# Altium integrated library TI Data Converters Analog to Digital Converter.IntLib: 2198 symbols (part 30 of 164)
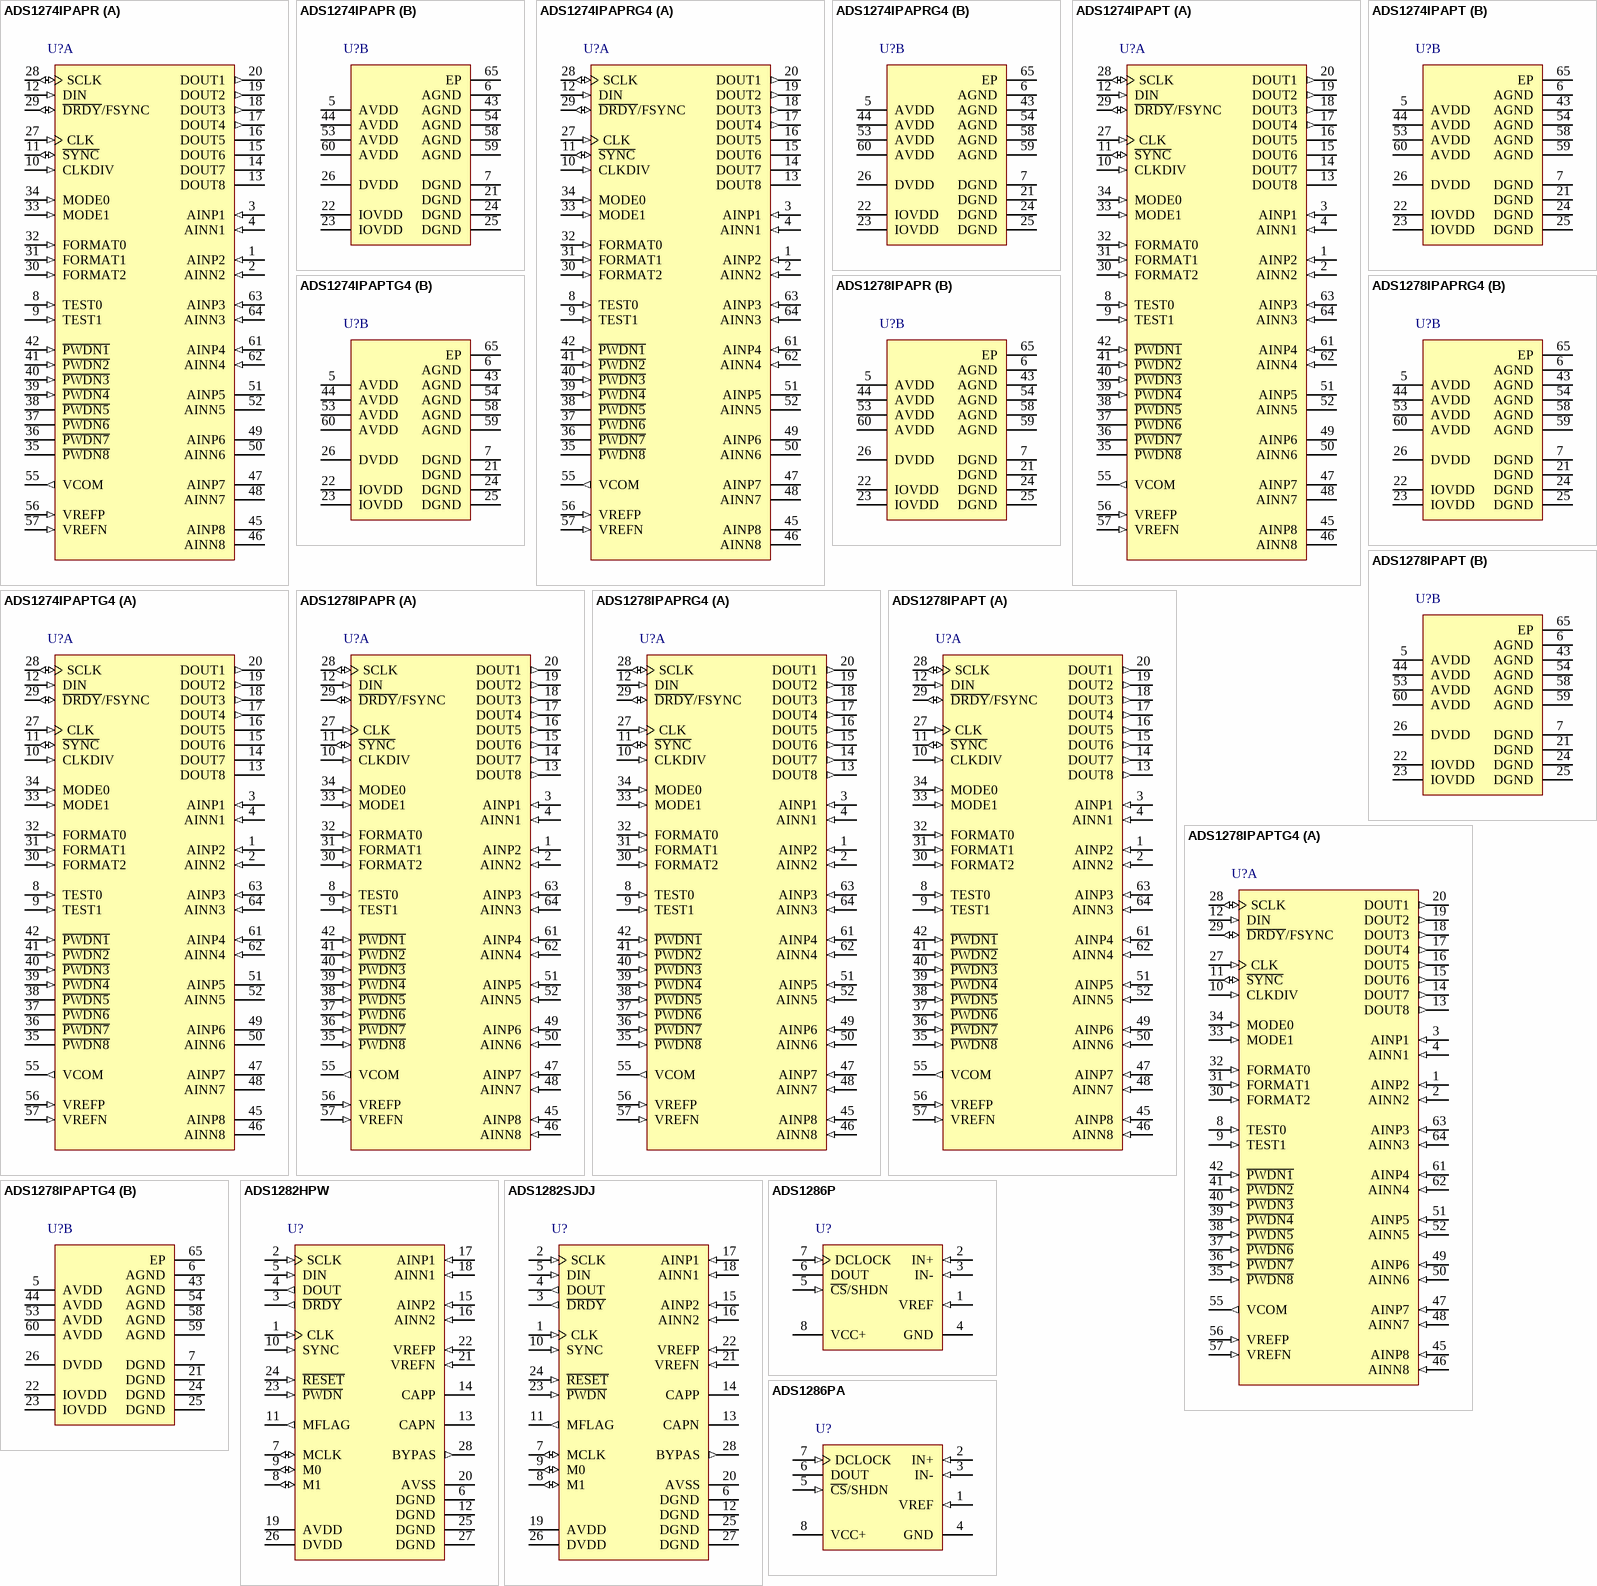
[diagram p155: symbols ADS1274IPAPR to ADS1286PA]

## ADS1274IPAPRG4
designator U?
Quad, Simultaneous Sampling, 24-Bit ADC, -40 to 125 degC, 64-pin PQFP (PAP64), Green (RoHS & no Sb/Br); Manufacturer: Texas Instruments; PartNumber: ADS1274IPAPRG4; # Input Channels: 4; Analog Voltage AV/DD(Max)(V): 5.25; Analog Voltage AV/DD(Min)(V): 4.75; Architecture: Delta-Sigma; Digital Supply(Max)(V): 3.6; Digital Supply(Min)(V): 1.65; Interface: Serial SPI; Resolution(Bits): 24; SNR(dB): 111; SubFamily: Precision ADC (<=10MSPS); DatasheetVersion: SBAS367F; PackageVersion: 4147702/C, 08/2003; PackageReference: PAP64-6495X6495TP; PackageDescription: 64-Pin PowerPAD(TM) Plastic Quad Flatpack, Body 10 x 10 mm, Pitch 0.5 mm; Supplier 1: Digi-Key; Supplier Part Number 1: ADS1274IPAPRG4-ND; Mounting Technology: Surface Mount; Code_JEDEC: MS-026; ComponentLink1Description: Manufacturer URL; ComponentLink1URL: http://www.ti.com/; ComponentLink2Description: Datasheet; ComponentLink2URL: http://www.ti.com/lit/ds/symlink/ads1274.pdf; ComponentLink3Description: Package Specification; ComponentLink3URL: http://www.ti.com/lit/ml/mpqf071b/mpqf071b.pdf
footprint TI-PAP64-6495X6495TP_N (QFP, 64-Leads, Body 10x10mm, Pitch 0.5mm, Thermal Pad 7x7mm, IPC Medium Density)
footprint TI-PAP64-6495X6495TP_L (QFP, 64-Leads, Body 10x10mm, Pitch 0.5mm, Thermal Pad 7x7mm, IPC High Density)
footprint TI-PAP64-6495X6495TP_M (QFP, 64-Leads, Body 10x10mm, Pitch 0.5mm, Thermal Pad 7x7mm, IPC Low Density)
part A pins: 1 AINP2 (in) "AINP[4:1] Positive analog input, channels 4 through 1.", 2 AINN2 (in) "AINN[4:1] Negative analog input, channels 4 through 1.", 3 AINP1 (in) "AINP[4:1] Positive analog input, channels 4 through 1.", 4 AINN1 (in) "AINN[4:1] Negative analog input, channels 4 through 1.", 8 TEST0 (in) "TEST[1:0] Test mode select: 00 = Normal operation 01 = Do not use 11 = Test mode 10 = Do not use", 9 TEST1 (in) "TEST[1:0] Test mode select: 00 = Normal operation 01 = Do not use 11 = Test mode 10 = Do not use", 10 CLKDIV (in) "CLK input divider control:1 = 37MHz (High-Speed mode)/otherwise 27MHz  0 = 13.5MHz (low-power)/5.4MHz (low-speed)", 11 ~{SYNC} (io) "Synchronize input (all channels).", 12 DIN (in) "Daisy-chain data input.", 13 DOUT8 "DOUT[8:5] Internally connected to active circuitry; outputs are driven.", 14 DOUT7 "DOUT[8:5] Internally connected to active circuitry; outputs are driven.", 15 DOUT6 "DOUT[8:5] Internally connected to active circuitry; outputs are driven.", 16 DOUT5 "DOUT[8:5] Internally connected to active circuitry; outputs are driven.", 17 DOUT4 (out) "DOUT[4:1] Data output for channels 4 through 1.", 18 DOUT3 (out) "DOUT[4:1] Data output for channels 4 through 1.", 19 DOUT2 (out) "DOUT[4:1] Data output for channels 4 through 1.", 20 DOUT1 (out) "DOUT[4:1] Data output for channels 4 through 1.", 27 CLK (in) "Master clock input (fCLK).", 28 SCLK (io) "Serial clock input, Modulator clock output", 29 ~{DRDY}/FSYNC (io) "Frame-Sync protocol: frame clock input; SPI protocol: data ready output.", 30 FORMAT2 (in) "FORMAT[2:0] Selects Frame-Sync/SPI protocol, TDM/discrete data outputs, fixed/dynamic position TDM data, and modulator mode/normal operating mode.", 31 FORMAT1 (in) "FORMAT[2:0] Selects Frame-Sync/SPI protocol, TDM/discrete data outputs, fixed/dynamic position TDM data, and modulator mode/normal operating mode.", 32 FORMAT0 (in) "FORMAT[2:0] Selects Frame-Sync/SPI protocol, TDM/discrete data outputs, fixed/dynamic position TDM data, and modulator mode/normal operating mode.", 33 MODE1 (in) "MODE[1:0] Selects High-Speed, High-Resolution, Low-Power, or Low-Speed mode operation.", 34 MODE0 (in) "MODE[1:0] Selects High-Speed, High-Resolution, Low-Power, or Low-Speed mode operation.", 35 ~{PWDN8} "P\W\D\N\[8:5] must = 0V", 36 ~{PWDN7} "P\W\D\N\[8:5] must = 0V", 37 ~{PWDN6} "P\W\D\N\[8:5] must = 0V", 38 ~{PWDN5} "P\W\D\N\[8:5] must = 0V", 39 ~{PWDN4} (in) "P\W\D\N\[4:1] Power-down control for channels 4 through 1.", 40 ~{PWDN3} (in) "P\W\D\N\[4:1] Power-down control for channels 4 through 1.", 41 ~{PWDN2} (in) "P\W\D\N\[4:1] Power-down control for channels 4 through 1.", 42 ~{PWDN1} (in) "P\W\D\N\[4:1] Power-down control for channels 4 through 1.", 45 AINP8 "AINP[8:5] Connected to internal ESD rails. The inputs may float", 46 AINN8 "AINN[8:5] Connected to internal ESD rails. The inputs may float", 47 AINP7 "AINP[8:5] Connected to internal ESD rails. The inputs may float", 48 AINN7 "AINN[8:5] Connected to internal ESD rails. The inputs may float", 49 AINP6 "AINP[8:5] Connected to internal ESD rails. The inputs may float", 50 AINN6 "AINN[8:5] Connected to internal ESD rails. The inputs may float", 51 AINP5 "AINP[8:5] Connected to internal ESD rails. The inputs may float", 52 AINN5 "AINN[8:5] Connected to internal ESD rails. The inputs may float", 55 VCOM (out) "AVDD/2 Unbuffered voltage output.", 56 VREFP (in) "Positive reference input.", 57 VREFN (in) "Negative reference input.", 61 AINP4 (in) "AINP[4:1] Positive analog input, channels 4 through 1.", 62 AINN4 (in) "AINN[4:1] Negative analog input, channels 4 through 1.", 63 AINP3 (in) "AINP[4:1] Positive analog input, channels 4 through 1.", 64 AINN3 (in) "AINN[4:1] Negative analog input, channels 4 through 1."
part B pins: 5 AVDD (power) "Analog power supply (4.75V to 5.25V).", 6 AGND (power) "Analog ground; connect to DGND using a single plane.", 7 DGND (power) "Digital ground power supply.", 21 DGND (power) "Digital ground power supply.", 22 IOVDD (power) "I/O power supply (+1.65V to +3.6V)", 23 IOVDD (power) "I/O power supply (+1.65V to +3.6V)", 24 DGND (power) "Digital ground power supply.", 25 DGND (power) "Digital ground power supply.", 26 DVDD (power) "Digital core power supply", 43 AGND (power) "Analog ground; connect to DGND using a single plane.", 44 AVDD (power) "Analog power supply (4.75V to 5.25V).", 53 AVDD (power) "Analog power supply (4.75V to 5.25V).", 54 AGND (power) "Analog ground; connect to DGND using a single plane.", 58 AGND (power) "Analog ground; connect to DGND using a single plane.", 59 AGND (power) "Analog ground; connect to DGND using a single plane.", 60 AVDD (power) "Analog power supply (4.75V to 5.25V).", 65 EP

## ADS1274IPAPT
designator U?
Quad, Simultaneous Sampling, 24-Bit ADC, -40 to 125 degC, 64-pin PQFP (PAP64), Green (RoHS & no Sb/Br); Manufacturer: Texas Instruments; PartNumber: ADS1274IPAPT; # Input Channels: 4; Analog Voltage AV/DD(Max)(V): 5.25; Analog Voltage AV/DD(Min)(V): 4.75; Architecture: Delta-Sigma; Digital Supply(Max)(V): 3.6; Digital Supply(Min)(V): 1.65; Interface: Serial SPI; Resolution(Bits): 24; SNR(dB): 111; SubFamily: Precision ADC (<=10MSPS); DatasheetVersion: SBAS367F; PackageVersion: 4147702/C, 08/2003; PackageReference: PAP64-6495X6495TP; PackageDescription: 64-Pin PowerPAD(TM) Plastic Quad Flatpack, Body 10 x 10 mm, Pitch 0.5 mm; Supplier 1: Digi-Key; Supplier Part Number 1: 296-22078-2-ND; Mounting Technology: Surface Mount; Code_JEDEC: MS-026; ComponentLink1Description: Manufacturer URL; ComponentLink1URL: http://www.ti.com/; ComponentLink2Description: Datasheet; ComponentLink2URL: http://www.ti.com/lit/ds/symlink/ads1274.pdf; ComponentLink3Description: Package Specification; ComponentLink3URL: http://www.ti.com/lit/ml/mpqf071b/mpqf071b.pdf
footprint TI-PAP64-6495X6495TP_N (QFP, 64-Leads, Body 10x10mm, Pitch 0.5mm, Thermal Pad 7x7mm, IPC Medium Density)
footprint TI-PAP64-6495X6495TP_L (QFP, 64-Leads, Body 10x10mm, Pitch 0.5mm, Thermal Pad 7x7mm, IPC High Density)
footprint TI-PAP64-6495X6495TP_M (QFP, 64-Leads, Body 10x10mm, Pitch 0.5mm, Thermal Pad 7x7mm, IPC Low Density)
part A pins: 1 AINP2 (in) "AINP[4:1] Positive analog input, channels 4 through 1.", 2 AINN2 (in) "AINN[4:1] Negative analog input, channels 4 through 1.", 3 AINP1 (in) "AINP[4:1] Positive analog input, channels 4 through 1.", 4 AINN1 (in) "AINN[4:1] Negative analog input, channels 4 through 1.", 8 TEST0 (in) "TEST[1:0] Test mode select: 00 = Normal operation 01 = Do not use 11 = Test mode 10 = Do not use", 9 TEST1 (in) "TEST[1:0] Test mode select: 00 = Normal operation 01 = Do not use 11 = Test mode 10 = Do not use", 10 CLKDIV (in) "CLK input divider control:1 = 37MHz (High-Speed mode)/otherwise 27MHz  0 = 13.5MHz (low-power)/5.4MHz (low-speed)", 11 ~{SYNC} (io) "Synchronize input (all channels).", 12 DIN (in) "Daisy-chain data input.", 13 DOUT8 "DOUT[8:5] Internally connected to active circuitry; outputs are driven.", 14 DOUT7 "DOUT[8:5] Internally connected to active circuitry; outputs are driven.", 15 DOUT6 "DOUT[8:5] Internally connected to active circuitry; outputs are driven.", 16 DOUT5 "DOUT[8:5] Internally connected to active circuitry; outputs are driven.", 17 DOUT4 (out) "DOUT[4:1] Data output for channels 4 through 1.", 18 DOUT3 (out) "DOUT[4:1] Data output for channels 4 through 1.", 19 DOUT2 (out) "DOUT[4:1] Data output for channels 4 through 1.", 20 DOUT1 (out) "DOUT[4:1] Data output for channels 4 through 1.", 27 CLK (in) "Master clock input (fCLK).", 28 SCLK (io) "Serial clock input, Modulator clock output", 29 ~{DRDY}/FSYNC (io) "Frame-Sync protocol: frame clock input; SPI protocol: data ready output.", 30 FORMAT2 (in) "FORMAT[2:0] Selects Frame-Sync/SPI protocol, TDM/discrete data outputs, fixed/dynamic position TDM data, and modulator mode/normal operating mode.", 31 FORMAT1 (in) "FORMAT[2:0] Selects Frame-Sync/SPI protocol, TDM/discrete data outputs, fixed/dynamic position TDM data, and modulator mode/normal operating mode.", 32 FORMAT0 (in) "FORMAT[2:0] Selects Frame-Sync/SPI protocol, TDM/discrete data outputs, fixed/dynamic position TDM data, and modulator mode/normal operating mode.", 33 MODE1 (in) "MODE[1:0] Selects High-Speed, High-Resolution, Low-Power, or Low-Speed mode operation.", 34 MODE0 (in) "MODE[1:0] Selects High-Speed, High-Resolution, Low-Power, or Low-Speed mode operation.", 35 ~{PWDN8} "P\W\D\N\[8:5] must = 0V", 36 ~{PWDN7} "P\W\D\N\[8:5] must = 0V", 37 ~{PWDN6} "P\W\D\N\[8:5] must = 0V", 38 ~{PWDN5} "P\W\D\N\[8:5] must = 0V", 39 ~{PWDN4} (in) "P\W\D\N\[4:1] Power-down control for channels 4 through 1.", 40 ~{PWDN3} (in) "P\W\D\N\[4:1] Power-down control for channels 4 through 1.", 41 ~{PWDN2} (in) "P\W\D\N\[4:1] Power-down control for channels 4 through 1.", 42 ~{PWDN1} (in) "P\W\D\N\[4:1] Power-down control for channels 4 through 1.", 45 AINP8 "AINP[8:5] Connected to internal ESD rails. The inputs may float", 46 AINN8 "AINN[8:5] Connected to internal ESD rails. The inputs may float", 47 AINP7 "AINP[8:5] Connected to internal ESD rails. The inputs may float", 48 AINN7 "AINN[8:5] Connected to internal ESD rails. The inputs may float", 49 AINP6 "AINP[8:5] Connected to internal ESD rails. The inputs may float", 50 AINN6 "AINN[8:5] Connected to internal ESD rails. The inputs may float", 51 AINP5 "AINP[8:5] Connected to internal ESD rails. The inputs may float", 52 AINN5 "AINN[8:5] Connected to internal ESD rails. The inputs may float", 55 VCOM (out) "AVDD/2 Unbuffered voltage output.", 56 VREFP (in) "Positive reference input.", 57 VREFN (in) "Negative reference input.", 61 AINP4 (in) "AINP[4:1] Positive analog input, channels 4 through 1.", 62 AINN4 (in) "AINN[4:1] Negative analog input, channels 4 through 1.", 63 AINP3 (in) "AINP[4:1] Positive analog input, channels 4 through 1.", 64 AINN3 (in) "AINN[4:1] Negative analog input, channels 4 through 1."
part B pins: 5 AVDD (power) "Analog power supply (4.75V to 5.25V).", 6 AGND (power) "Analog ground; connect to DGND using a single plane.", 7 DGND (power) "Digital ground power supply.", 21 DGND (power) "Digital ground power supply.", 22 IOVDD (power) "I/O power supply (+1.65V to +3.6V)", 23 IOVDD (power) "I/O power supply (+1.65V to +3.6V)", 24 DGND (power) "Digital ground power supply.", 25 DGND (power) "Digital ground power supply.", 26 DVDD (power) "Digital core power supply", 43 AGND (power) "Analog ground; connect to DGND using a single plane.", 44 AVDD (power) "Analog power supply (4.75V to 5.25V).", 53 AVDD (power) "Analog power supply (4.75V to 5.25V).", 54 AGND (power) "Analog ground; connect to DGND using a single plane.", 58 AGND (power) "Analog ground; connect to DGND using a single plane.", 59 AGND (power) "Analog ground; connect to DGND using a single plane.", 60 AVDD (power) "Analog power supply (4.75V to 5.25V).", 65 EP

## ADS1274IPAPTG4
designator U?
Quad, Simultaneous Sampling, 24-Bit ADC, -40 to 125 degC, 64-pin PQFP (PAP64), Green (RoHS & no Sb/Br); Manufacturer: Texas Instruments; PartNumber: ADS1274IPAPTG4; # Input Channels: 4; Analog Voltage AV/DD(Max)(V): 5.25; Analog Voltage AV/DD(Min)(V): 4.75; Architecture: Delta-Sigma; Digital Supply(Max)(V): 3.6; Digital Supply(Min)(V): 1.65; Interface: Serial SPI; Resolution(Bits): 24; SNR(dB): 111; SubFamily: Precision ADC (<=10MSPS); DatasheetVersion: SBAS367F; PackageVersion: 4147702/C, 08/2003; PackageReference: PAP64-6495X6495TP; PackageDescription: 64-Pin PowerPAD(TM) Plastic Quad Flatpack, Body 10 x 10 mm, Pitch 0.5 mm; Supplier 1: Digi-Key; Supplier Part Number 1: ADS1274IPAPTG4-ND; Mounting Technology: Surface Mount; Code_JEDEC: MS-026; ComponentLink1Description: Manufacturer URL; ComponentLink1URL: http://www.ti.com/; ComponentLink2Description: Datasheet; ComponentLink2URL: http://www.ti.com/lit/ds/symlink/ads1274.pdf; ComponentLink3Description: Package Specification; ComponentLink3URL: http://www.ti.com/lit/ml/mpqf071b/mpqf071b.pdf
footprint TI-PAP64-6495X6495TP_N (QFP, 64-Leads, Body 10x10mm, Pitch 0.5mm, Thermal Pad 7x7mm, IPC Medium Density)
footprint TI-PAP64-6495X6495TP_L (QFP, 64-Leads, Body 10x10mm, Pitch 0.5mm, Thermal Pad 7x7mm, IPC High Density)
footprint TI-PAP64-6495X6495TP_M (QFP, 64-Leads, Body 10x10mm, Pitch 0.5mm, Thermal Pad 7x7mm, IPC Low Density)
part A pins: 1 AINP2 (in) "AINP[4:1] Positive analog input, channels 4 through 1.", 2 AINN2 (in) "AINN[4:1] Negative analog input, channels 4 through 1.", 3 AINP1 (in) "AINP[4:1] Positive analog input, channels 4 through 1.", 4 AINN1 (in) "AINN[4:1] Negative analog input, channels 4 through 1.", 8 TEST0 (in) "TEST[1:0] Test mode select: 00 = Normal operation 01 = Do not use 11 = Test mode 10 = Do not use", 9 TEST1 (in) "TEST[1:0] Test mode select: 00 = Normal operation 01 = Do not use 11 = Test mode 10 = Do not use", 10 CLKDIV (in) "CLK input divider control:1 = 37MHz (High-Speed mode)/otherwise 27MHz  0 = 13.5MHz (low-power)/5.4MHz (low-speed)", 11 ~{SYNC} (io) "Synchronize input (all channels).", 12 DIN (in) "Daisy-chain data input.", 13 DOUT8 "DOUT[8:5] Internally connected to active circuitry; outputs are driven.", 14 DOUT7 "DOUT[8:5] Internally connected to active circuitry; outputs are driven.", 15 DOUT6 "DOUT[8:5] Internally connected to active circuitry; outputs are driven.", 16 DOUT5 "DOUT[8:5] Internally connected to active circuitry; outputs are driven.", 17 DOUT4 (out) "DOUT[4:1] Data output for channels 4 through 1.", 18 DOUT3 (out) "DOUT[4:1] Data output for channels 4 through 1.", 19 DOUT2 (out) "DOUT[4:1] Data output for channels 4 through 1.", 20 DOUT1 (out) "DOUT[4:1] Data output for channels 4 through 1.", 27 CLK (in) "Master clock input (fCLK).", 28 SCLK (io) "Serial clock input, Modulator clock output", 29 ~{DRDY}/FSYNC (io) "Frame-Sync protocol: frame clock input; SPI protocol: data ready output.", 30 FORMAT2 (in) "FORMAT[2:0] Selects Frame-Sync/SPI protocol, TDM/discrete data outputs, fixed/dynamic position TDM data, and modulator mode/normal operating mode.", 31 FORMAT1 (in) "FORMAT[2:0] Selects Frame-Sync/SPI protocol, TDM/discrete data outputs, fixed/dynamic position TDM data, and modulator mode/normal operating mode.", 32 FORMAT0 (in) "FORMAT[2:0] Selects Frame-Sync/SPI protocol, TDM/discrete data outputs, fixed/dynamic position TDM data, and modulator mode/normal operating mode.", 33 MODE1 (in) "MODE[1:0] Selects High-Speed, High-Resolution, Low-Power, or Low-Speed mode operation.", 34 MODE0 (in) "MODE[1:0] Selects High-Speed, High-Resolution, Low-Power, or Low-Speed mode operation.", 35 ~{PWDN8} "P\W\D\N\[8:5] must = 0V", 36 ~{PWDN7} "P\W\D\N\[8:5] must = 0V", 37 ~{PWDN6} "P\W\D\N\[8:5] must = 0V", 38 ~{PWDN5} "P\W\D\N\[8:5] must = 0V", 39 ~{PWDN4} (in) "P\W\D\N\[4:1] Power-down control for channels 4 through 1.", 40 ~{PWDN3} (in) "P\W\D\N\[4:1] Power-down control for channels 4 through 1.", 41 ~{PWDN2} (in) "P\W\D\N\[4:1] Power-down control for channels 4 through 1.", 42 ~{PWDN1} (in) "P\W\D\N\[4:1] Power-down control for channels 4 through 1.", 45 AINP8 "AINP[8:5] Connected to internal ESD rails. The inputs may float", 46 AINN8 "AINN[8:5] Connected to internal ESD rails. The inputs may float", 47 AINP7 "AINP[8:5] Connected to internal ESD rails. The inputs may float", 48 AINN7 "AINN[8:5] Connected to internal ESD rails. The inputs may float", 49 AINP6 "AINP[8:5] Connected to internal ESD rails. The inputs may float", 50 AINN6 "AINN[8:5] Connected to internal ESD rails. The inputs may float", 51 AINP5 "AINP[8:5] Connected to internal ESD rails. The inputs may float", 52 AINN5 "AINN[8:5] Connected to internal ESD rails. The inputs may float", 55 VCOM (out) "AVDD/2 Unbuffered voltage output.", 56 VREFP (in) "Positive reference input.", 57 VREFN (in) "Negative reference input.", 61 AINP4 (in) "AINP[4:1] Positive analog input, channels 4 through 1.", 62 AINN4 (in) "AINN[4:1] Negative analog input, channels 4 through 1.", 63 AINP3 (in) "AINP[4:1] Positive analog input, channels 4 through 1.", 64 AINN3 (in) "AINN[4:1] Negative analog input, channels 4 through 1."
part B pins: 5 AVDD (power) "Analog power supply (4.75V to 5.25V).", 6 AGND (power) "Analog ground; connect to DGND using a single plane.", 7 DGND (power) "Digital ground power supply.", 21 DGND (power) "Digital ground power supply.", 22 IOVDD (power) "I/O power supply (+1.65V to +3.6V)", 23 IOVDD (power) "I/O power supply (+1.65V to +3.6V)", 24 DGND (power) "Digital ground power supply.", 25 DGND (power) "Digital ground power supply.", 26 DVDD (power) "Digital core power supply", 43 AGND (power) "Analog ground; connect to DGND using a single plane.", 44 AVDD (power) "Analog power supply (4.75V to 5.25V).", 53 AVDD (power) "Analog power supply (4.75V to 5.25V).", 54 AGND (power) "Analog ground; connect to DGND using a single plane.", 58 AGND (power) "Analog ground; connect to DGND using a single plane.", 59 AGND (power) "Analog ground; connect to DGND using a single plane.", 60 AVDD (power) "Analog power supply (4.75V to 5.25V).", 65 EP

## ADS1278IPAPR
designator U?
Octal, Simultaneous Sampling, 24-Bit ADC, -40 to 105 degC, 64-pin PQFP (PAP64), Green (RoHS & no Sb/Br); Manufacturer: Texas Instruments; PartNumber: ADS1278IPAPR; # Input Channels: 8; Analog Voltage AV/DD(Max)(V): 5.25; Analog Voltage AV/DD(Min)(V): 4.75; Architecture: Delta-Sigma; Digital Supply(Max)(V): 3.6; Digital Supply(Min)(V): 1.65; Interface: Serial SPI; Resolution(Bits): 24; SNR(dB): 111; SubFamily: Precision ADC (<=10MSPS); DatasheetVersion: SBAS367F; PackageVersion: 4147702/C, 08/2003; PackageReference: PAP64-6495X6495TP; PackageDescription: 64-Pin PowerPAD(TM) Plastic Quad Flatpack, Body 10 x 10 mm, Pitch 0.5 mm; Supplier 1: Digi-Key; Supplier Part Number 1: ADS1278IPAPR-ND; Mounting Technology: Surface Mount; Code_JEDEC: MS-026; ComponentLink1Description: Manufacturer URL; ComponentLink1URL: http://www.ti.com/; ComponentLink2Description: Datasheet; ComponentLink2URL: http://www.ti.com/lit/ds/symlink/ads1274.pdf; ComponentLink3Description: Package Specification; ComponentLink3URL: http://www.ti.com/lit/ml/mpqf071b/mpqf071b.pdf
footprint TI-PAP64-6495X6495TP_N (QFP, 64-Leads, Body 10x10mm, Pitch 0.5mm, Thermal Pad 7x7mm, IPC Medium Density)
footprint TI-PAP64-6495X6495TP_L (QFP, 64-Leads, Body 10x10mm, Pitch 0.5mm, Thermal Pad 7x7mm, IPC High Density)
footprint TI-PAP64-6495X6495TP_M (QFP, 64-Leads, Body 10x10mm, Pitch 0.5mm, Thermal Pad 7x7mm, IPC Low Density)
part A pins: 1 AINP2 (in) "AINP[8:1] Positive analog input, channels 8 through 1.", 2 AINN2 (in) "AINN[8:1] Negative analog input, channels 8 through 1.", 3 AINP1 (in) "AINP[8:1] Positive analog input, channels 8 through 1.", 4 AINN1 (in) "AINN[8:1] Negative analog input, channels 8 through 1.", 8 TEST0 (in) "TEST[1:0] Test mode select: 00 = Normal operation 01 = Do not use 11 = Test mode 10 = Do not use", 9 TEST1 (in) "TEST[1:0] Test mode select: 00 = Normal operation 01 = Do not use 11 = Test mode 10 = Do not use", 10 CLKDIV (in) "CLK input divider control:1 = 37MHz (High-Speed mode)/otherwise 27MHz  0 = 13.5MHz (low-power)/5.4MHz (low-speed)", 11 ~{SYNC} (io) "Synchronize input (all channels).", 12 DIN (in) "Daisy-chain data input.", 13 DOUT8 (out) "DOUT[8:1] Data output for channels 8 through 1.", 14 DOUT7 (out) "DOUT[8:1] Data output for channels 8 through 1.", 15 DOUT6 (out) "DOUT[8:1] Data output for channels 8 through 1.", 16 DOUT5 (out) "DOUT[8:1] Data output for channels 8 through 1.", 17 DOUT4 (out) "DOUT[8:1] Data output for channels 8 through 1.", 18 DOUT3 (out) "DOUT[8:1] Data output for channels 8 through 1.", 19 DOUT2 (out) "DOUT[8:1] Data output for channels 8 through 1.", 20 DOUT1 (out) "DOUT[8:1] Data output for channels 8 through 1.", 27 CLK (in) "Master clock input (fCLK).", 28 SCLK (io) "Serial clock input, Modulator clock output", 29 ~{DRDY}/FSYNC (io) "Frame-Sync protocol: frame clock input; SPI protocol: data ready output.", 30 FORMAT2 (in) "FORMAT[2:0] Selects Frame-Sync/SPI protocol, TDM/discrete data outputs, fixed/dynamic position TDM data, and modulator mode/normal operating mode.", 31 FORMAT1 (in) "FORMAT[2:0] Selects Frame-Sync/SPI protocol, TDM/discrete data outputs, fixed/dynamic position TDM data, and modulator mode/normal operating mode.", 32 FORMAT0 (in) "FORMAT[2:0] Selects Frame-Sync/SPI protocol, TDM/discrete data outputs, fixed/dynamic position TDM data, and modulator mode/normal operating mode.", 33 MODE1 (in) "MODE[1:0] Selects High-Speed, High-Resolution, Low-Power, or Low-Speed mode operation.", 34 MODE0 (in) "MODE[1:0] Selects High-Speed, High-Resolution, Low-Power, or Low-Speed mode operation.", 35 ~{PWDN8} (in) "P\W\D\N\[8:1] Power-down control for channels 8 through 1.", 36 ~{PWDN7} (in) "P\W\D\N\[8:1] Power-down control for channels 8 through 1.", 37 ~{PWDN6} (in) "P\W\D\N\[8:1] Power-down control for channels 8 through 1.", 38 ~{PWDN5} (in) "P\W\D\N\[8:1] Power-down control for channels 8 through 1.", 39 ~{PWDN4} (in) "P\W\D\N\[8:1] Power-down control for channels 8 through 1.", 40 ~{PWDN3} (in) "P\W\D\N\[8:1] Power-down control for channels 8 through 1.", 41 ~{PWDN2} (in) "P\W\D\N\[8:1] Power-down control for channels 8 through 1.", 42 ~{PWDN1} (in) "P\W\D\N\[8:1] Power-down control for channels 8 through 1.", 45 AINP8 (in) "AINP[8:1] Positive analog input, channels 8 through 1.", 46 AINN8 (in) "AINN[8:1] Negative analog input, channels 8 through 1.", 47 AINP7 (in) "AINP[8:1] Positive analog input, channels 8 through 1.", 48 AINN7 (in) "AINN[8:1] Negative analog input, channels 8 through 1.", 49 AINP6 (in) "AINP[8:1] Positive analog input, channels 8 through 1.", 50 AINN6 (in) "AINN[8:1] Negative analog input, channels 8 through 1.", 51 AINP5 (in) "AINP[8:1] Positive analog input, channels 8 through 1.", 52 AINN5 (in) "AINN[8:1] Negative analog input, channels 8 through 1.", 55 VCOM (out) "AVDD/2 Unbuffered voltage output.", 56 VREFP (in) "Positive reference input.", 57 VREFN (in) "Negative reference input.", 61 AINP4 (in) "AINP[8:1] Positive analog input, channels 8 through 1.", 62 AINN4 (in) "AINN[8:1] Negative analog input, channels 8 through 1.", 63 AINP3 (in) "AINP[8:1] Positive analog input, channels 8 through 1.", 64 AINN3 (in) "AINN[8:1] Negative analog input, channels 8 through 1."
part B pins: 5 AVDD (power) "Analog power supply (4.75V to 5.25V).", 6 AGND (power) "Analog ground; connect to DGND using a single plane.", 7 DGND (power) "Digital ground power supply.", 21 DGND (power) "Digital ground power supply.", 22 IOVDD (power) "I/O power supply (+1.65V to +3.6V)", 23 IOVDD (power) "I/O power supply (+1.65V to +3.6V)", 24 DGND (power) "Digital ground power supply.", 25 DGND (power) "Digital ground power supply.", 26 DVDD (power) "Digital core power supply", 43 AGND (power) "Analog ground; connect to DGND using a single plane.", 44 AVDD (power) "Analog power supply (4.75V to 5.25V).", 53 AVDD (power) "Analog power supply (4.75V to 5.25V).", 54 AGND (power) "Analog ground; connect to DGND using a single plane.", 58 AGND (power) "Analog ground; connect to DGND using a single plane.", 59 AGND (power) "Analog ground; connect to DGND using a single plane.", 60 AVDD (power) "Analog power supply (4.75V to 5.25V).", 65 EP

## ADS1278IPAPRG4
designator U?
Octal, Simultaneous Sampling, 24-Bit ADC, -40 to 105 degC, 64-pin PQFP (PAP64), Green (RoHS & no Sb/Br); Manufacturer: Texas Instruments; PartNumber: ADS1278IPAPRG4; # Input Channels: 8; Analog Voltage AV/DD(Max)(V): 5.25; Analog Voltage AV/DD(Min)(V): 4.75; Architecture: Delta-Sigma; Digital Supply(Max)(V): 3.6; Digital Supply(Min)(V): 1.65; Interface: Serial SPI; Resolution(Bits): 24; SNR(dB): 111; SubFamily: Precision ADC (<=10MSPS); DatasheetVersion: SBAS367F; PackageVersion: 4147702/C, 08/2003; PackageReference: PAP64-6495X6495TP; PackageDescription: 64-Pin PowerPAD(TM) Plastic Quad Flatpack, Body 10 x 10 mm, Pitch 0.5 mm; Supplier 1: Digi-Key; Supplier Part Number 1: ADS1278IPAPRG4-ND; Mounting Technology: Surface Mount; Code_JEDEC: MS-026; ComponentLink1Description: Manufacturer URL; ComponentLink1URL: http://www.ti.com/; ComponentLink2Description: Datasheet; ComponentLink2URL: http://www.ti.com/lit/ds/symlink/ads1274.pdf; ComponentLink3Description: Package Specification; ComponentLink3URL: http://www.ti.com/lit/ml/mpqf071b/mpqf071b.pdf
footprint TI-PAP64-6495X6495TP_N (QFP, 64-Leads, Body 10x10mm, Pitch 0.5mm, Thermal Pad 7x7mm, IPC Medium Density)
footprint TI-PAP64-6495X6495TP_L (QFP, 64-Leads, Body 10x10mm, Pitch 0.5mm, Thermal Pad 7x7mm, IPC High Density)
footprint TI-PAP64-6495X6495TP_M (QFP, 64-Leads, Body 10x10mm, Pitch 0.5mm, Thermal Pad 7x7mm, IPC Low Density)
part A pins: 1 AINP2 (in) "AINP[8:1] Positive analog input, channels 8 through 1.", 2 AINN2 (in) "AINN[8:1] Negative analog input, channels 8 through 1.", 3 AINP1 (in) "AINP[8:1] Positive analog input, channels 8 through 1.", 4 AINN1 (in) "AINN[8:1] Negative analog input, channels 8 through 1.", 8 TEST0 (in) "TEST[1:0] Test mode select: 00 = Normal operation 01 = Do not use 11 = Test mode 10 = Do not use", 9 TEST1 (in) "TEST[1:0] Test mode select: 00 = Normal operation 01 = Do not use 11 = Test mode 10 = Do not use", 10 CLKDIV (in) "CLK input divider control:1 = 37MHz (High-Speed mode)/otherwise 27MHz  0 = 13.5MHz (low-power)/5.4MHz (low-speed)", 11 ~{SYNC} (io) "Synchronize input (all channels).", 12 DIN (in) "Daisy-chain data input.", 13 DOUT8 (out) "DOUT[8:1] Data output for channels 8 through 1.", 14 DOUT7 (out) "DOUT[8:1] Data output for channels 8 through 1.", 15 DOUT6 (out) "DOUT[8:1] Data output for channels 8 through 1.", 16 DOUT5 (out) "DOUT[8:1] Data output for channels 8 through 1.", 17 DOUT4 (out) "DOUT[8:1] Data output for channels 8 through 1.", 18 DOUT3 (out) "DOUT[8:1] Data output for channels 8 through 1.", 19 DOUT2 (out) "DOUT[8:1] Data output for channels 8 through 1.", 20 DOUT1 (out) "DOUT[8:1] Data output for channels 8 through 1.", 27 CLK (in) "Master clock input (fCLK).", 28 SCLK (io) "Serial clock input, Modulator clock output", 29 ~{DRDY}/FSYNC (io) "Frame-Sync protocol: frame clock input; SPI protocol: data ready output.", 30 FORMAT2 (in) "FORMAT[2:0] Selects Frame-Sync/SPI protocol, TDM/discrete data outputs, fixed/dynamic position TDM data, and modulator mode/normal operating mode.", 31 FORMAT1 (in) "FORMAT[2:0] Selects Frame-Sync/SPI protocol, TDM/discrete data outputs, fixed/dynamic position TDM data, and modulator mode/normal operating mode.", 32 FORMAT0 (in) "FORMAT[2:0] Selects Frame-Sync/SPI protocol, TDM/discrete data outputs, fixed/dynamic position TDM data, and modulator mode/normal operating mode.", 33 MODE1 (in) "MODE[1:0] Selects High-Speed, High-Resolution, Low-Power, or Low-Speed mode operation.", 34 MODE0 (in) "MODE[1:0] Selects High-Speed, High-Resolution, Low-Power, or Low-Speed mode operation.", 35 ~{PWDN8} (in) "P\W\D\N\[8:1] Power-down control for channels 8 through 1.", 36 ~{PWDN7} (in) "P\W\D\N\[8:1] Power-down control for channels 8 through 1.", 37 ~{PWDN6} (in) "P\W\D\N\[8:1] Power-down control for channels 8 through 1.", 38 ~{PWDN5} (in) "P\W\D\N\[8:1] Power-down control for channels 8 through 1.", 39 ~{PWDN4} (in) "P\W\D\N\[8:1] Power-down control for channels 8 through 1.", 40 ~{PWDN3} (in) "P\W\D\N\[8:1] Power-down control for channels 8 through 1.", 41 ~{PWDN2} (in) "P\W\D\N\[8:1] Power-down control for channels 8 through 1.", 42 ~{PWDN1} (in) "P\W\D\N\[8:1] Power-down control for channels 8 through 1.", 45 AINP8 (in) "AINP[8:1] Positive analog input, channels 8 through 1.", 46 AINN8 (in) "AINN[8:1] Negative analog input, channels 8 through 1.", 47 AINP7 (in) "AINP[8:1] Positive analog input, channels 8 through 1.", 48 AINN7 (in) "AINN[8:1] Negative analog input, channels 8 through 1.", 49 AINP6 (in) "AINP[8:1] Positive analog input, channels 8 through 1.", 50 AINN6 (in) "AINN[8:1] Negative analog input, channels 8 through 1.", 51 AINP5 (in) "AINP[8:1] Positive analog input, channels 8 through 1.", 52 AINN5 (in) "AINN[8:1] Negative analog input, channels 8 through 1.", 55 VCOM (out) "AVDD/2 Unbuffered voltage output.", 56 VREFP (in) "Positive reference input.", 57 VREFN (in) "Negative reference input.", 61 AINP4 (in) "AINP[8:1] Positive analog input, channels 8 through 1.", 62 AINN4 (in) "AINN[8:1] Negative analog input, channels 8 through 1.", 63 AINP3 (in) "AINP[8:1] Positive analog input, channels 8 through 1.", 64 AINN3 (in) "AINN[8:1] Negative analog input, channels 8 through 1."
part B pins: 5 AVDD (power) "Analog power supply (4.75V to 5.25V).", 6 AGND (power) "Analog ground; connect to DGND using a single plane.", 7 DGND (power) "Digital ground power supply.", 21 DGND (power) "Digital ground power supply.", 22 IOVDD (power) "I/O power supply (+1.65V to +3.6V)", 23 IOVDD (power) "I/O power supply (+1.65V to +3.6V)", 24 DGND (power) "Digital ground power supply.", 25 DGND (power) "Digital ground power supply.", 26 DVDD (power) "Digital core power supply", 43 AGND (power) "Analog ground; connect to DGND using a single plane.", 44 AVDD (power) "Analog power supply (4.75V to 5.25V).", 53 AVDD (power) "Analog power supply (4.75V to 5.25V).", 54 AGND (power) "Analog ground; connect to DGND using a single plane.", 58 AGND (power) "Analog ground; connect to DGND using a single plane.", 59 AGND (power) "Analog ground; connect to DGND using a single plane.", 60 AVDD (power) "Analog power supply (4.75V to 5.25V).", 65 EP

## ADS1278IPAPT
designator U?
Octal, Simultaneous Sampling, 24-Bit ADC, -40 to 105 degC, 64-pin PQFP (PAP64), Green (RoHS & no Sb/Br); Manufacturer: Texas Instruments; PartNumber: ADS1278IPAPT; # Input Channels: 8; Analog Voltage AV/DD(Max)(V): 5.25; Analog Voltage AV/DD(Min)(V): 4.75; Architecture: Delta-Sigma; Digital Supply(Max)(V): 3.6; Digital Supply(Min)(V): 1.65; Interface: Serial SPI; Resolution(Bits): 24; SNR(dB): 111; SubFamily: Precision ADC (<=10MSPS); DatasheetVersion: SBAS367F; PackageVersion: 4147702/C, 08/2003; PackageReference: PAP64-6495X6495TP; PackageDescription: 64-Pin PowerPAD(TM) Plastic Quad Flatpack, Body 10 x 10 mm, Pitch 0.5 mm; Supplier 1: Digi-Key; Supplier Part Number 1: 296-21983-2-ND; Mounting Technology: Surface Mount; Code_JEDEC: MS-026; ComponentLink1Description: Manufacturer URL; ComponentLink1URL: http://www.ti.com/; ComponentLink2Description: Datasheet; ComponentLink2URL: http://www.ti.com/lit/ds/symlink/ads1274.pdf; ComponentLink3Description: Package Specification; ComponentLink3URL: http://www.ti.com/lit/ml/mpqf071b/mpqf071b.pdf
footprint TI-PAP64-6495X6495TP_N (QFP, 64-Leads, Body 10x10mm, Pitch 0.5mm, Thermal Pad 7x7mm, IPC Medium Density)
footprint TI-PAP64-6495X6495TP_L (QFP, 64-Leads, Body 10x10mm, Pitch 0.5mm, Thermal Pad 7x7mm, IPC High Density)
footprint TI-PAP64-6495X6495TP_M (QFP, 64-Leads, Body 10x10mm, Pitch 0.5mm, Thermal Pad 7x7mm, IPC Low Density)
part A pins: 1 AINP2 (in) "AINP[8:1] Positive analog input, channels 8 through 1.", 2 AINN2 (in) "AINN[8:1] Negative analog input, channels 8 through 1.", 3 AINP1 (in) "AINP[8:1] Positive analog input, channels 8 through 1.", 4 AINN1 (in) "AINN[8:1] Negative analog input, channels 8 through 1.", 8 TEST0 (in) "TEST[1:0] Test mode select: 00 = Normal operation 01 = Do not use 11 = Test mode 10 = Do not use", 9 TEST1 (in) "TEST[1:0] Test mode select: 00 = Normal operation 01 = Do not use 11 = Test mode 10 = Do not use", 10 CLKDIV (in) "CLK input divider control:1 = 37MHz (High-Speed mode)/otherwise 27MHz  0 = 13.5MHz (low-power)/5.4MHz (low-speed)", 11 ~{SYNC} (io) "Synchronize input (all channels).", 12 DIN (in) "Daisy-chain data input.", 13 DOUT8 (out) "DOUT[8:1] Data output for channels 8 through 1.", 14 DOUT7 (out) "DOUT[8:1] Data output for channels 8 through 1.", 15 DOUT6 (out) "DOUT[8:1] Data output for channels 8 through 1.", 16 DOUT5 (out) "DOUT[8:1] Data output for channels 8 through 1.", 17 DOUT4 (out) "DOUT[8:1] Data output for channels 8 through 1.", 18 DOUT3 (out) "DOUT[8:1] Data output for channels 8 through 1.", 19 DOUT2 (out) "DOUT[8:1] Data output for channels 8 through 1.", 20 DOUT1 (out) "DOUT[8:1] Data output for channels 8 through 1.", 27 CLK (in) "Master clock input (fCLK).", 28 SCLK (io) "Serial clock input, Modulator clock output", 29 ~{DRDY}/FSYNC (io) "Frame-Sync protocol: frame clock input; SPI protocol: data ready output.", 30 FORMAT2 (in) "FORMAT[2:0] Selects Frame-Sync/SPI protocol, TDM/discrete data outputs, fixed/dynamic position TDM data, and modulator mode/normal operating mode.", 31 FORMAT1 (in) "FORMAT[2:0] Selects Frame-Sync/SPI protocol, TDM/discrete data outputs, fixed/dynamic position TDM data, and modulator mode/normal operating mode.", 32 FORMAT0 (in) "FORMAT[2:0] Selects Frame-Sync/SPI protocol, TDM/discrete data outputs, fixed/dynamic position TDM data, and modulator mode/normal operating mode.", 33 MODE1 (in) "MODE[1:0] Selects High-Speed, High-Resolution, Low-Power, or Low-Speed mode operation.", 34 MODE0 (in) "MODE[1:0] Selects High-Speed, High-Resolution, Low-Power, or Low-Speed mode operation.", 35 ~{PWDN8} (in) "P\W\D\N\[8:1] Power-down control for channels 8 through 1.", 36 ~{PWDN7} (in) "P\W\D\N\[8:1] Power-down control for channels 8 through 1.", 37 ~{PWDN6} (in) "P\W\D\N\[8:1] Power-down control for channels 8 through 1.", 38 ~{PWDN5} (in) "P\W\D\N\[8:1] Power-down control for channels 8 through 1.", 39 ~{PWDN4} (in) "P\W\D\N\[8:1] Power-down control for channels 8 through 1.", 40 ~{PWDN3} (in) "P\W\D\N\[8:1] Power-down control for channels 8 through 1.", 41 ~{PWDN2} (in) "P\W\D\N\[8:1] Power-down control for channels 8 through 1.", 42 ~{PWDN1} (in) "P\W\D\N\[8:1] Power-down control for channels 8 through 1.", 45 AINP8 (in) "AINP[8:1] Positive analog input, channels 8 through 1.", 46 AINN8 (in) "AINN[8:1] Negative analog input, channels 8 through 1.", 47 AINP7 (in) "AINP[8:1] Positive analog input, channels 8 through 1.", 48 AINN7 (in) "AINN[8:1] Negative analog input, channels 8 through 1.", 49 AINP6 (in) "AINP[8:1] Positive analog input, channels 8 through 1.", 50 AINN6 (in) "AINN[8:1] Negative analog input, channels 8 through 1.", 51 AINP5 (in) "AINP[8:1] Positive analog input, channels 8 through 1.", 52 AINN5 (in) "AINN[8:1] Negative analog input, channels 8 through 1.", 55 VCOM (out) "AVDD/2 Unbuffered voltage output.", 56 VREFP (in) "Positive reference input.", 57 VREFN (in) "Negative reference input.", 61 AINP4 (in) "AINP[8:1] Positive analog input, channels 8 through 1.", 62 AINN4 (in) "AINN[8:1] Negative analog input, channels 8 through 1.", 63 AINP3 (in) "AINP[8:1] Positive analog input, channels 8 through 1.", 64 AINN3 (in) "AINN[8:1] Negative analog input, channels 8 through 1."
part B pins: 5 AVDD (power) "Analog power supply (4.75V to 5.25V).", 6 AGND (power) "Analog ground; connect to DGND using a single plane.", 7 DGND (power) "Digital ground power supply.", 21 DGND (power) "Digital ground power supply.", 22 IOVDD (power) "I/O power supply (+1.65V to +3.6V)", 23 IOVDD (power) "I/O power supply (+1.65V to +3.6V)", 24 DGND (power) "Digital ground power supply.", 25 DGND (power) "Digital ground power supply.", 26 DVDD (power) "Digital core power supply", 43 AGND (power) "Analog ground; connect to DGND using a single plane.", 44 AVDD (power) "Analog power supply (4.75V to 5.25V).", 53 AVDD (power) "Analog power supply (4.75V to 5.25V).", 54 AGND (power) "Analog ground; connect to DGND using a single plane.", 58 AGND (power) "Analog ground; connect to DGND using a single plane.", 59 AGND (power) "Analog ground; connect to DGND using a single plane.", 60 AVDD (power) "Analog power supply (4.75V to 5.25V).", 65 EP

## ADS1278IPAPTG4
designator U?
Octal, Simultaneous Sampling, 24-Bit ADC, -40 to 105 degC, 64-pin PQFP (PAP64), Green (RoHS & no Sb/Br); Manufacturer: Texas Instruments; PartNumber: ADS1278IPAPTG4; # Input Channels: 8; Analog Voltage AV/DD(Max)(V): 5.25; Analog Voltage AV/DD(Min)(V): 4.75; Architecture: Delta-Sigma; Digital Supply(Max)(V): 3.6; Digital Supply(Min)(V): 1.65; Interface: Serial SPI; Resolution(Bits): 24; SNR(dB): 111; SubFamily: Precision ADC (<=10MSPS); DatasheetVersion: SBAS367F; PackageVersion: 4147702/C, 08/2003; PackageReference: PAP64-6495X6495TP; PackageDescription: 64-Pin PowerPAD(TM) Plastic Quad Flatpack, Body 10 x 10 mm, Pitch 0.5 mm; Supplier 1: Digi-Key; Supplier Part Number 1: ADS1278IPAPTG4-ND; Mounting Technology: Surface Mount; Code_JEDEC: MS-026; ComponentLink1Description: Manufacturer URL; ComponentLink1URL: http://www.ti.com/; ComponentLink2Description: Datasheet; ComponentLink2URL: http://www.ti.com/lit/ds/symlink/ads1274.pdf; ComponentLink3Description: Package Specification; ComponentLink3URL: http://www.ti.com/lit/ml/mpqf071b/mpqf071b.pdf
footprint TI-PAP64-6495X6495TP_N (QFP, 64-Leads, Body 10x10mm, Pitch 0.5mm, Thermal Pad 7x7mm, IPC Medium Density)
footprint TI-PAP64-6495X6495TP_L (QFP, 64-Leads, Body 10x10mm, Pitch 0.5mm, Thermal Pad 7x7mm, IPC High Density)
footprint TI-PAP64-6495X6495TP_M (QFP, 64-Leads, Body 10x10mm, Pitch 0.5mm, Thermal Pad 7x7mm, IPC Low Density)
part A pins: 1 AINP2 (in) "AINP[8:1] Positive analog input, channels 8 through 1.", 2 AINN2 (in) "AINN[8:1] Negative analog input, channels 8 through 1.", 3 AINP1 (in) "AINP[8:1] Positive analog input, channels 8 through 1.", 4 AINN1 (in) "AINN[8:1] Negative analog input, channels 8 through 1.", 8 TEST0 (in) "TEST[1:0] Test mode select: 00 = Normal operation 01 = Do not use 11 = Test mode 10 = Do not use", 9 TEST1 (in) "TEST[1:0] Test mode select: 00 = Normal operation 01 = Do not use 11 = Test mode 10 = Do not use", 10 CLKDIV (in) "CLK input divider control:1 = 37MHz (High-Speed mode)/otherwise 27MHz  0 = 13.5MHz (low-power)/5.4MHz (low-speed)", 11 ~{SYNC} (io) "Synchronize input (all channels).", 12 DIN (in) "Daisy-chain data input.", 13 DOUT8 (out) "DOUT[8:1] Data output for channels 8 through 1.", 14 DOUT7 (out) "DOUT[8:1] Data output for channels 8 through 1.", 15 DOUT6 (out) "DOUT[8:1] Data output for channels 8 through 1.", 16 DOUT5 (out) "DOUT[8:1] Data output for channels 8 through 1.", 17 DOUT4 (out) "DOUT[8:1] Data output for channels 8 through 1.", 18 DOUT3 (out) "DOUT[8:1] Data output for channels 8 through 1.", 19 DOUT2 (out) "DOUT[8:1] Data output for channels 8 through 1.", 20 DOUT1 (out) "DOUT[8:1] Data output for channels 8 through 1.", 27 CLK (in) "Master clock input (fCLK).", 28 SCLK (io) "Serial clock input, Modulator clock output", 29 ~{DRDY}/FSYNC (io) "Frame-Sync protocol: frame clock input; SPI protocol: data ready output.", 30 FORMAT2 (in) "FORMAT[2:0] Selects Frame-Sync/SPI protocol, TDM/discrete data outputs, fixed/dynamic position TDM data, and modulator mode/normal operating mode.", 31 FORMAT1 (in) "FORMAT[2:0] Selects Frame-Sync/SPI protocol, TDM/discrete data outputs, fixed/dynamic position TDM data, and modulator mode/normal operating mode.", 32 FORMAT0 (in) "FORMAT[2:0] Selects Frame-Sync/SPI protocol, TDM/discrete data outputs, fixed/dynamic position TDM data, and modulator mode/normal operating mode.", 33 MODE1 (in) "MODE[1:0] Selects High-Speed, High-Resolution, Low-Power, or Low-Speed mode operation.", 34 MODE0 (in) "MODE[1:0] Selects High-Speed, High-Resolution, Low-Power, or Low-Speed mode operation.", 35 ~{PWDN8} (in) "P\W\D\N\[8:1] Power-down control for channels 8 through 1.", 36 ~{PWDN7} (in) "P\W\D\N\[8:1] Power-down control for channels 8 through 1.", 37 ~{PWDN6} (in) "P\W\D\N\[8:1] Power-down control for channels 8 through 1.", 38 ~{PWDN5} (in) "P\W\D\N\[8:1] Power-down control for channels 8 through 1.", 39 ~{PWDN4} (in) "P\W\D\N\[8:1] Power-down control for channels 8 through 1.", 40 ~{PWDN3} (in) "P\W\D\N\[8:1] Power-down control for channels 8 through 1.", 41 ~{PWDN2} (in) "P\W\D\N\[8:1] Power-down control for channels 8 through 1.", 42 ~{PWDN1} (in) "P\W\D\N\[8:1] Power-down control for channels 8 through 1.", 45 AINP8 (in) "AINP[8:1] Positive analog input, channels 8 through 1.", 46 AINN8 (in) "AINN[8:1] Negative analog input, channels 8 through 1.", 47 AINP7 (in) "AINP[8:1] Positive analog input, channels 8 through 1.", 48 AINN7 (in) "AINN[8:1] Negative analog input, channels 8 through 1.", 49 AINP6 (in) "AINP[8:1] Positive analog input, channels 8 through 1.", 50 AINN6 (in) "AINN[8:1] Negative analog input, channels 8 through 1.", 51 AINP5 (in) "AINP[8:1] Positive analog input, channels 8 through 1.", 52 AINN5 (in) "AINN[8:1] Negative analog input, channels 8 through 1.", 55 VCOM (out) "AVDD/2 Unbuffered voltage output.", 56 VREFP (in) "Positive reference input.", 57 VREFN (in) "Negative reference input.", 61 AINP4 (in) "AINP[8:1] Positive analog input, channels 8 through 1.", 62 AINN4 (in) "AINN[8:1] Negative analog input, channels 8 through 1.", 63 AINP3 (in) "AINP[8:1] Positive analog input, channels 8 through 1.", 64 AINN3 (in) "AINN[8:1] Negative analog input, channels 8 through 1."
part B pins: 5 AVDD (power) "Analog power supply (4.75V to 5.25V).", 6 AGND (power) "Analog ground; connect to DGND using a single plane.", 7 DGND (power) "Digital ground power supply.", 21 DGND (power) "Digital ground power supply.", 22 IOVDD (power) "I/O power supply (+1.65V to +3.6V)", 23 IOVDD (power) "I/O power supply (+1.65V to +3.6V)", 24 DGND (power) "Digital ground power supply.", 25 DGND (power) "Digital ground power supply.", 26 DVDD (power) "Digital core power supply", 43 AGND (power) "Analog ground; connect to DGND using a single plane.", 44 AVDD (power) "Analog power supply (4.75V to 5.25V).", 53 AVDD (power) "Analog power supply (4.75V to 5.25V).", 54 AGND (power) "Analog ground; connect to DGND using a single plane.", 58 AGND (power) "Analog ground; connect to DGND using a single plane.", 59 AGND (power) "Analog ground; connect to DGND using a single plane.", 60 AVDD (power) "Analog power supply (4.75V to 5.25V).", 65 EP

## ADS1282HPW
designator U?
High Temperature Ultra High Resolution Delta Sigma ADC with PGA for Seismic and Energy Exploration, -55 to 175 degC, 28-pin SOP (PW28), Green (RoHS & no Sb/Br); Manufacturer: Texas Instruments; PartNumber: ADS1282HPW; # Input Channels: 2; Analog Voltage AV/DD(Max)(V): 5.25; Analog Voltage AV/DD(Min)(V): 4.75; Architecture: Delta-Sigma; Digital Supply(Max)(V): 3.6; Digital Supply(Min)(V): 1.75; Interface: Serial SPI; Resolution(Bits): 31; Sample Rate (max)(SPS): 4k; SFDR(dB): 123; SNR(dB): 124; SubFamily: Low Power, 8-Bit, Dual 1.5 GSPS or Single 3.0 GSPS A/D Converter; DatasheetVersion: SBAS446F; PackageVersion: 4040064-7/G, 02/2011; PackageReference: PW28; PackageDescription: 28-Pin Plastic Small Outline, Body 9.7 x 4.4 mm, Pitch 0.65 mm; Supplier 1: Digi-Key; Supplier Part Number 1: ADS8505IDWG4-ND; Eco-Plan: Green (RoHS & no Sb/Br); Mounting Technology: Surface Mount; Code_JEDEC: MO-153; ComponentLink1Description: Manufacturer URL; ComponentLink1URL: http://www.ti.com/; ComponentLink2Description: Datasheet; ComponentLink2URL: http://www.ti.com/general/docs/lit/getliterature.tsp?genericPartNumber=ADS1282-HT&fileType=pdf; ComponentLink3Description: Package Specification; ComponentLink3URL: http://www.ti.com/litv/pdf/mpds364
footprint TI-PW28_N (SOP, 28-Leads, Body 9.7x4.4mm, Pitch 0.65mm, IPC Medium Density)
footprint TI-PW28_L (SOP, 28-Leads, Body 9.7x4.4mm, Pitch 0.65mm, IPC High Density)
footprint TI-PW28_M (SOP, 28-Leads, Body 9.7x4.4mm, Pitch 0.65mm, IPC Low Density)
pins: 1 CLK (in) "Master clock input", 2 SCLK (in) "Serial clock input", 3 ~{DRDY} (out) "Data ready output: read data on falling edge", 4 DOUT (out) "Serial data output", 5 DIN (in) "Serial data input", 6 DGND (power) "Digital ground, pin 12 is the key ground point", 7 MCLK (io) "Modulator clock output; if in modulator mode: MCLK: Modulator clock output Otherwise, the pin is an unused input (must be tied).", 8 M1 (io) "Modulator data output 1; if in modulator mode: M1: Modulator data output 1 Otherwise, the pin is an unused input (must be tied).", 9 M0 (io) "Modulator data output 0; if in modulator mode: M0: Modulator data output 0 Otherwise, the pin is an unused input (must be tied).", 10 SYNC (in) "Synchronize input", 11 MFLAG (out) "Modulator Over-Range flag: 0 = normal, 1 = modulator over-range", 12 DGND (power) "Digital ground, pin 12 is the key ground point", 13 CAPN "PGA outputs: Connect 10-nF capacitor from CAPP to CAPN", 14 CAPP "PGA outputs: Connect 10-nF capacitor from CAPP to CAPN", 15 AINP2 (in) "Positive analog input 2", 16 AINN2 (in) "Negative analog input 2", 17 AINP1 (in) "Positive analog input 1", 18 AINN1 (in) "Negative analog input 1", 19 AVDD (power) "Positive analog power supply", 20 AVSS (power) "Negative analog power supply", 21 VREFN (in) "Negative reference input", 22 VREFP (in) "Positive reference input", 23 ~{PWDN} (in) "Power-down input, active low", 24 ~{RESET} (in) "Reset input, active low", 25 DGND (power) "Digital ground, pin 12 is the key ground point", 26 DVDD (power) "Digital power supply: 1.8 V to 3.3 V", 27 DGND (power) "Digital ground, pin 12 is the key ground point", 28 BYPAS (out) "Sub-regulator output: Connect 1-uF capacitor to DGND"

## ADS1282SJDJ
designator U?
High Temperature Ultra High Resolution Delta Sigma ADC with PGA for Seismic and Energy Exploration, -55 to 210 degC, 28-pin DIP (JDJ28); Manufacturer: Texas Instruments; PartNumber: ADS1282SJDJ; # Input Channels: 2; Analog Voltage AV/DD(Max)(V): 5.25; Analog Voltage AV/DD(Min)(V): 4.75; Architecture: Delta-Sigma; Digital Supply(Max)(V): 3.6; Digital Supply(Min)(V): 1.75; Interface: Serial SPI; Resolution(Bits): 31; Sample Rate (max)(SPS): 4k; SFDR(dB): 123; SNR(dB): 124; SubFamily: Low Power, 8-Bit, Dual 1.5 GSPS or Single 3.0 GSPS A/D Converter; DatasheetVersion: SBAS446F; PackageVersion: 4202646-3/B, 07/2010; PackageReference: JDJ28; PackageDescription: 28-Pin Ceramic, Metal In-Line, Body 35.56 x 7.49 mm, Pitch 2.54 mm; Supplier 1: Digi-Key; Supplier Part Number 1: ADS8505IDWR-ND; Mounting Technology: Through Hole; ComponentLink1Description: Manufacturer URL; ComponentLink1URL: http://www.ti.com/; ComponentLink2Description: Datasheet; ComponentLink2URL: http://www.ti.com/general/docs/lit/getliterature.tsp?genericPartNumber=ADS1282-HT&fileType=pdf; ComponentLink3Description: Package Specification; ComponentLink3URL: http://www.ti.com/lit/ml/mcdi050/mcdi050.pdf
footprint TI-JDJ28 (DIP, 28-Leads, Body 35.56x7.49mm, Pitch 2.54mm)
pins: 1 CLK (in) "Master clock input", 2 SCLK (in) "Serial clock input", 3 ~{DRDY} (out) "Data ready output: read data on falling edge", 4 DOUT (out) "Serial data output", 5 DIN (in) "Serial data input", 6 DGND (power) "Digital ground, pin 12 is the key ground point", 7 MCLK (io) "Modulator clock output; if in modulator mode: MCLK: Modulator clock output Otherwise, the pin is an unused input (must be tied).", 8 M1 (io) "Modulator data output 1; if in modulator mode: M1: Modulator data output 1 Otherwise, the pin is an unused input (must be tied).", 9 M0 (io) "Modulator data output 0; if in modulator mode: M0: Modulator data output 0 Otherwise, the pin is an unused input (must be tied).", 10 SYNC (in) "Synchronize input", 11 MFLAG (out) "Modulator Over-Range flag: 0 = normal, 1 = modulator over-range", 12 DGND (power) "Digital ground, pin 12 is the key ground point", 13 CAPN "PGA outputs: Connect 10-nF capacitor from CAPP to CAPN", 14 CAPP "PGA outputs: Connect 10-nF capacitor from CAPP to CAPN", 15 AINP2 (in) "Positive analog input 2", 16 AINN2 (in) "Negative analog input 2", 17 AINP1 (in) "Positive analog input 1", 18 AINN1 (in) "Negative analog input 1", 19 AVDD (power) "Positive analog power supply", 20 AVSS (power) "Negative analog power supply", 21 VREFN (in) "Negative reference input", 22 VREFP (in) "Positive reference input", 23 ~{PWDN} (in) "Power-down input, active low", 24 ~{RESET} (in) "Reset input, active low", 25 DGND (power) "Digital ground, pin 12 is the key ground point", 26 DVDD (power) "Digital power supply: 1.8 V to 3.3 V", 27 DGND (power) "Digital ground, pin 12 is the key ground point", 28 BYPAS (out) "Sub-regulator output: Connect 1-uF capacitor to DGND"